# Altium footprint library OSCCC250X320X80-4N.PcbLib: 1 footprints
Each footprint in its own frame and in the unit in brackets; x right, y up, seen from the top. Pads: shape width x height; smd on the part's side, far side on the other; paste and mask are expansions set on the pad; w line width, h text height; cw(c..) or ccw(c..) is an arc to the next point about the centre after c.
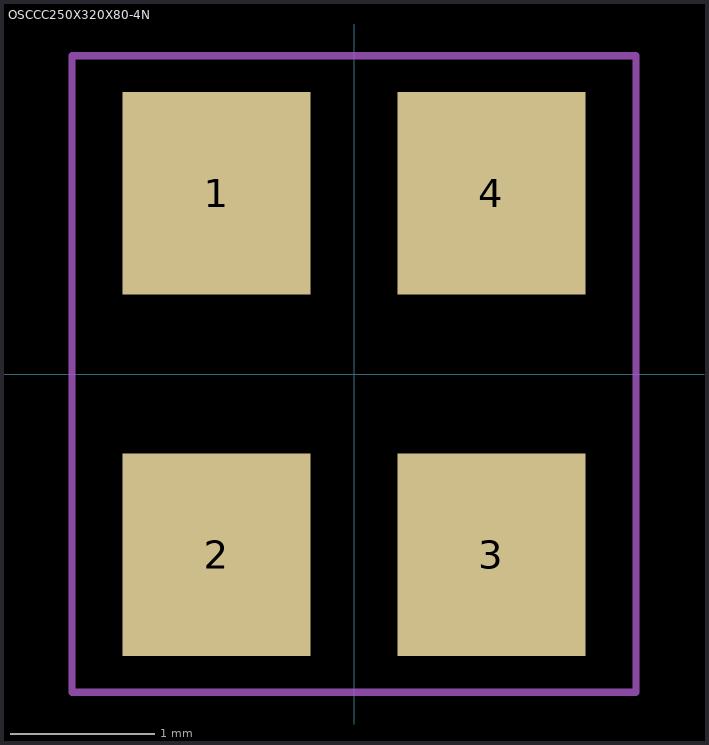
[diagram p0: the footprint, top view; thin cyan lines are the x and y axes]

## OSCCC250X320X80-4N [mm]
pads (4):
  rect 1.3x1.4 smd: 1(-0.95,1.25) 2(-0.95,-1.25) 3(0.95,-1.25) 4(0.95,1.25)
Mechanical 15:
  lines w0.05: -1.95,-2.2 -1.95,2.2 1.95,2.2 1.95,-2.2 -1.95,-2.2
3D body "7M-12.000MEEQ-T--3DModel-STEP-56544.STEP": height 0, standoff -0.8, extent -1.25,-1.727 1.25,1.473